# EAGLE library part FTSH-105-01-F-DV-K-TR (library epoch)
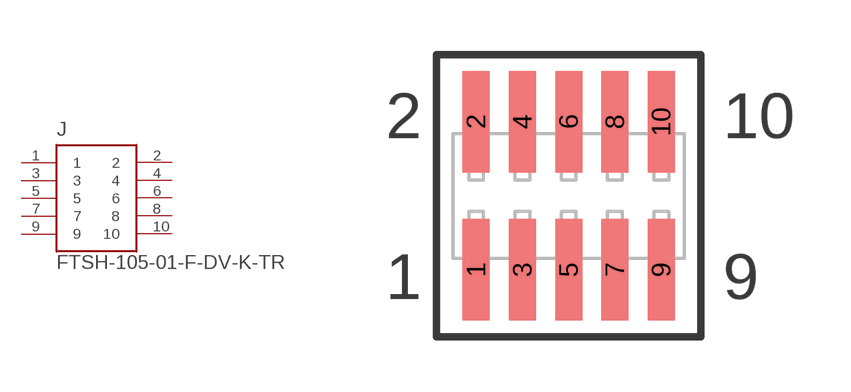
[diagram p5: symbol with the pads of SAMTEC-FTSH-105-01-X-DV; footprint SAMTEC-FTSH-105-01-X-DV]

Designator prefix J

## FTSH-105-01-F-DV-K-TRJ (AVAILABILITY: Unavailable; DESCRIPTION: FTSH Series .050 Micro Terminal Strip; MF: Samtec Inc.; MP: FTSH-105-01-F-DV-K; PACKAGE: None; PRICE: None)  [SAMTEC-FTSH-105-01-X-DV]
1  1  pas
2  2  pas
3  3  pas
4  4  pas
5  5  pas
6  6  pas
7  7  pas
8  8  pas
9  9  pas
10  10  pas

## Footprint SAMTEC-FTSH-105-01-X-DV (pad centres in mm)
translated Allegro footprint
smd 0.74 x 2.79: 1 -2.54,-2.032; 2 -2.54,2.032; 3 -1.27,-2.032; 4 -1.27,2.032; 5 0,-2.032; 6 0,2.032; 7 1.27,-2.032; 8 1.27,2.032; 9 2.54,-2.032; 10 2.54,2.032